# Altium footprint library WFHC.PcbLib: 33 footprints (part 1 of 3)
Each footprint in its own frame and in the unit in brackets; x right, y up, seen from the top. Pads: shape width x height; smd on the part's side, far side on the other; paste and mask are expansions set on the pad; w line width, h text height; cw(c..) or ccw(c..) is an arc to the next point about the centre after c.
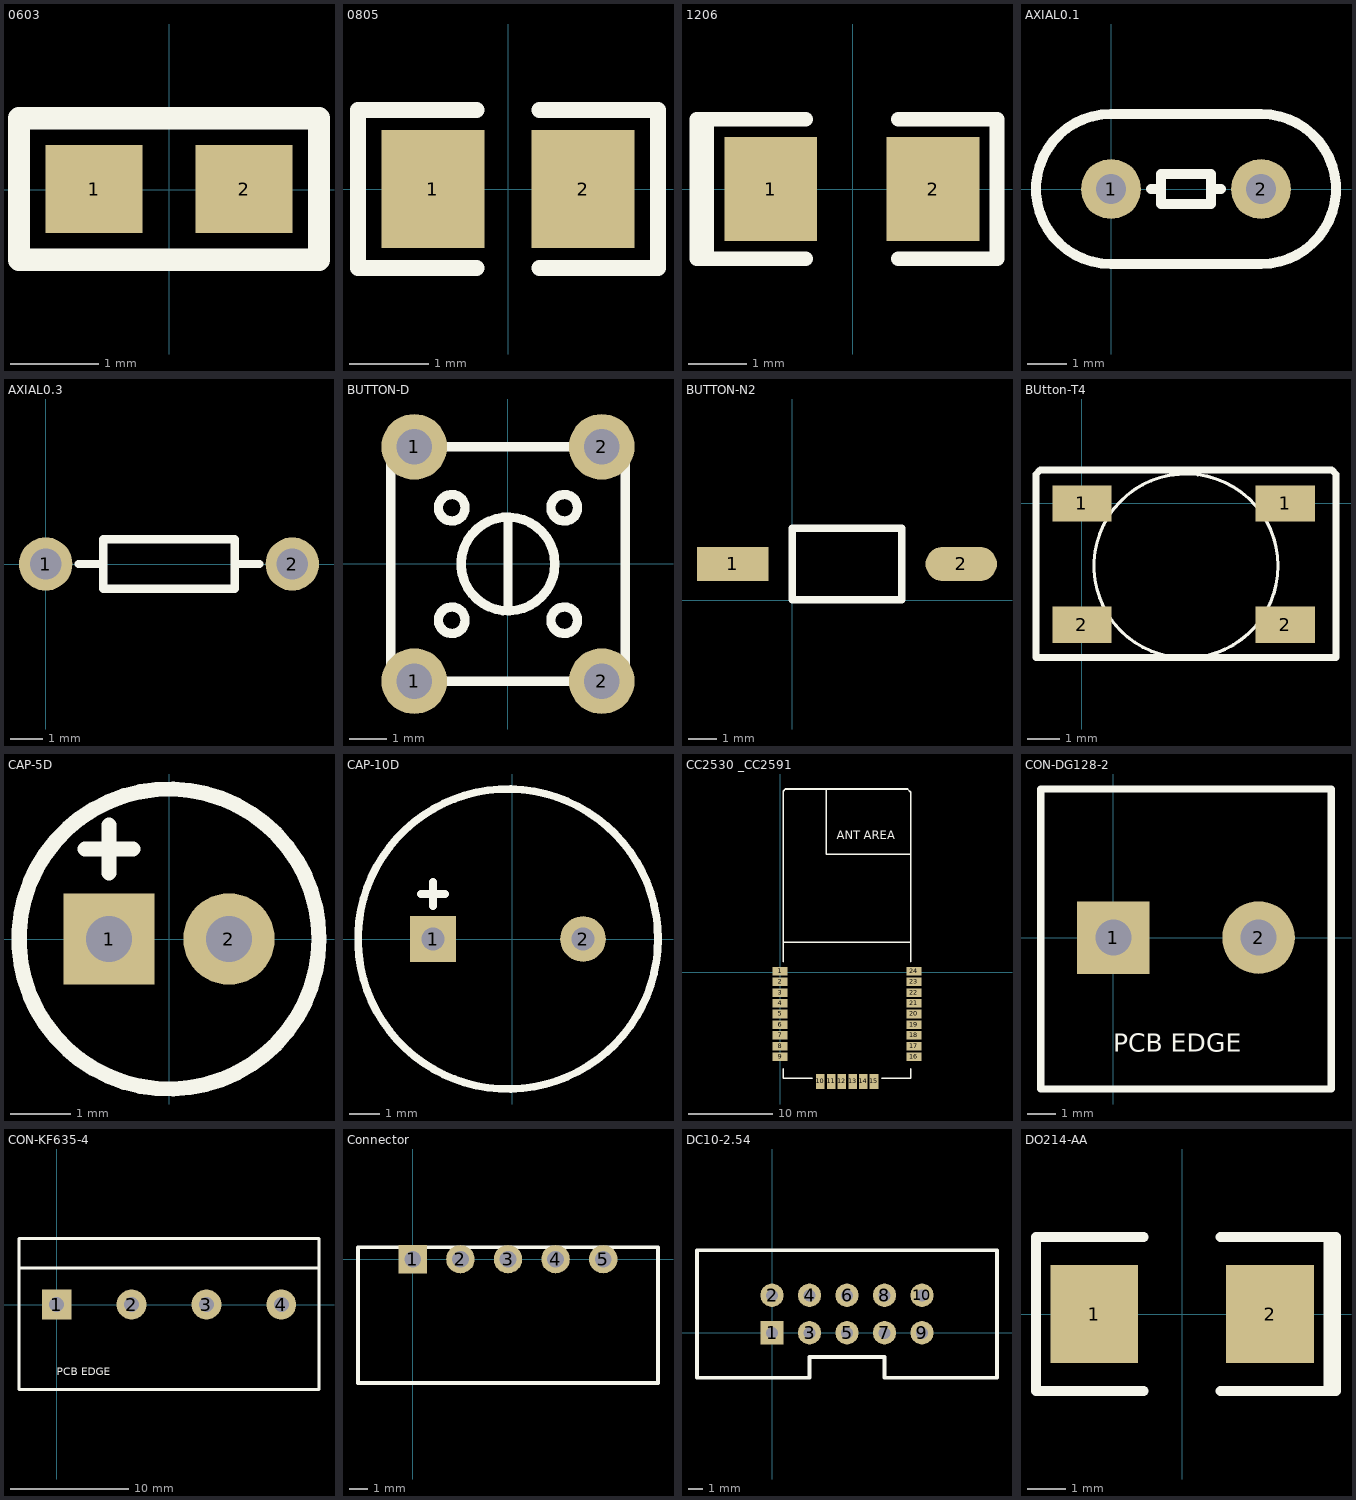
[diagram p0: the footprints below, top view; thin cyan lines are the x and y axes]

## 0603 [mm]
pads (2):
  rect 1.1x1 smd: 1(-0.85,0.01) 2(0.85,0.01)
Top Overlay:
  lines w0.254: -1.7,-0.79 -1.7,0.81 1.7,0.81 1.7,-0.79 -1.7,-0.79

## 0805 [mm]
pads (2):
  rect 1.3x1.5 smd: 1(-0.95,0) 2(0.95,0)
Top Overlay:
  lines w0.203: -0.4,-1 -1.9,-1 -1.9,1 -0.4,1 ; 0.4,-1 1.9,-1 1.9,1 0.4,1

## 1206 [mm]
pads (2):
  rect 1.6x1.8 smd: 1(-1.41,0) 2(1.39,0)
Top Overlay:
  lines w0.254: -2.51,-1.2 -2.51,1.2 ; -0.81,-1.2 -2.68,-1.2 -2.68,1.2 -0.81,1.2 ; 0.79,-1.2 2.49,-1.2 2.49,1.2 0.79,1.2

## AXIAL0.1 [mil]
pads (2):
  round 60 hole 30: 1(0,0) 2(150,0)
Top Overlay:
  lines w10: 40,0 45,0 ; 105,0 110,0 ; 0,-75 cw(c0,0) 0,75 150,75 cw(c150,0) 150,-75 0,-75 ; 50,-15 50,15 100,15 100,-15 50,-15

## AXIAL0.3 [mil]
pads (2):
  round 65 hole 38: 1(0,0) 2(300,0)
Top Overlay:
  lines w10: 40,0 70,0 ; 230,0 260,0 ; 70,0 70,-30 230,-30 230,30 70,30 70,0

## BUTTON-D [mil]
pads (4):
  round 70 hole 38: 1(-100,-125) 1(-100,125) 2(100,-125) 2(100,125)
Top Overlay:
  circle w10: c-60,60 r14.14
  circle w10: c60,60 r14.14
  circle w10: c60,-60 r14.14
  circle w10: c-60,-60 r14.14
  circle w10: c0,0 r50
  lines w10: 0,-50 0,50 ; -125,-125 125,-125 125,125 -125,125 -125,-125

## BUTTON-N2 [mm]
pads (2):
  rect 2.5x1.2 smd: 1(-2.083,1.27)
  oval 2.5x1.2 smd: 2(5.917,1.27)
Top Overlay:
  lines w0.254: 0.002,0.02 0.002,2.52 1.292,2.52 2.542,2.52 3.832,2.52 3.832,0.02 0.002,0.02

## BUtton-T4 [mm] "4*4*1.5"
pads (4):
  rect 1.8x1.1 smd: 1(0,0) 1(6.2,0) 2(0,-3.7) 2(6.2,-3.7)
Top Overlay:
  circle w0.1: c3.175,-1.905 r2.806
  lines w0.203: -1.397,-4.699 7.747,-4.699 7.747,0.889 7.62,1.016 -1.27,1.016 -1.397,0.889 -1.397,-4.699

## CAP-5D [mil]
pads (2):
  rect 60x60 hole 30: 1(-39.37,0)
  round 60 hole 30: 2(39.37,0)
Top Overlay:
  circle w10: c0,0 r98.43
  lines w10: -55.12,59.06 -23.62,59.06 ; -39.37,43.31 -39.37,74.8

## CAP-10D [mil]
pads (2):
  rect 60x60 hole 30: 1(-104.21,0.39)
  round 60 hole 30: 2(92.64,0.39)
Top Overlay:
  circle w10: c-5.79,0.39 r196.85
  lines w10: -119.96,59.45 -88.46,59.45 ; -104.21,43.7 -104.21,75.2

## CC2530 _CC2591 [mil]
pads (24):
  rect 70x40 smd: 1(0,5) 2(-0.04,-44.88) 3(-0.04,-94.88) 4(-0.04,-144.88) 5(-0.04,-194.88) 6(-0.04,-244.88) 7(-0.04,-294.88) 8(-0.04,-344.88) 9(-0.04,-394.88) 16(624.96,-394.88) 17(624.96,-344.88) 18(624.96,-294.88) 19(624.96,-244.88) 20(624.96,-194.88) 21(624.96,-144.88) 22(624.96,-94.88) 23(624.96,-44.88) 24(624.96,5.12)
  rect 40x70 smd: 10(188.42,-509.88) 11(238.42,-509.88) 12(288.42,-509.88) 13(338.42,-509.88) 14(388.42,-509.88) 15(438.42,-509.88)
Top Overlay:
  lines w8: 15,-450 15,-495 150,-495 ; 15,50 15,730 15,845 25,855 595,855 610,840 610,730 610,50 ; 15,140 610,140 ; 215,855 215,730 215,550 610,550 ; 475,-495 610,-495 610,-450
  text "ANT AREA" at 265,620 h40
Top Paste:
  lines w3.94: 15,845 20,850 ; 600,850 610,840

## CON-DG128-2 [mil]
pads (2):
  rect 100x100 hole 50: 1(0,0)
  round 100 hole 50: 2(200,0)
Top Overlay:
  lines w10: -100,-208.66 -100,204.72 300,204.72 300,-208.66 -100,-208.66
  text "PCB EDGE" at 0,-157.48 h25

## CON-KF635-4 [mil]
pads (4):
  rect 100x100 hole 50: 1(0,0)
  round 100 hole 50: 2(250,0) 3(500,0) 4(750,0)
Top Overlay:
  lines w10: -125.98,122.05 875.98,122.05 ; -125.98,-283.46 875.98,-283.46 875.98,220.47 -125.98,220.47 -125.98,-283.46
  text "PCB EDGE" at 0,-236.22 h25

## Connector [mm]
pads (5):
  rect 1.52x1.5 hole 0.9: 1(0,0)
  oval 1.52x1.5 hole 0.9: 2(2.54,0) 3(5.08,0) 4(7.62,0) 5(10.16,0)
Top Overlay:
  lines w0.203: -2.921,-6.604 13.081,-6.604 13.081,0.635 -1.27,0.635 -2.921,0.635 -2.921,-6.604

## DC10-2.54 [mil]
pads (10):
  rect 62x62 hole 32: 1(0,0)
  round 62 hole 32: 2(0,100) 3(100,0) 4(100,100) 5(200,0) 6(200,100) 7(300,0) 8(300,100) 9(400,0) 10(400,100)
Top Overlay:
  lines w10: -200,-120 -200,220 600,220 600,-120 300,-120 300,-65 100,-65 100,-120 -200,-120

## DO214-AA [mil]
pads (2):
  rect 90x100 smd: 1(-90,0) 2(90,0)
Top Overlay:
  lines w10: -149.61,-78.74 -149.61,78.74 ; -147.64,-78.74 -39.37,-78.74 ; -147.64,78.74 -39.37,78.74 ; 39.37,-78.74 157.48,-78.74 157.48,78.74 39.37,78.74 ; 149.61,-78.74 149.61,78.74